# EAGLE library part 050-9X2 (library zz-upenn 2)
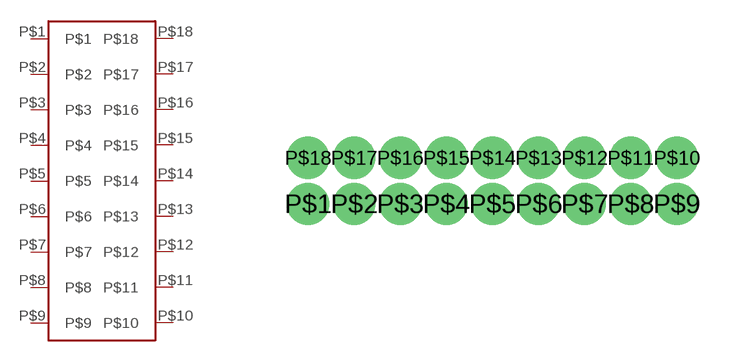
[diagram p15: symbol with the pads of 050-9X2; footprint 050-9X2]

Designator prefix -

## 050-9X2  [050-9X2]
P$1  P$1
P$2  P$2
P$3  P$3
P$4  P$4
P$5  P$5
P$6  P$6
P$7  P$7
P$8  P$8
P$9  P$9
P$10  P$10
P$11  P$11
P$12  P$12
P$13  P$13
P$14  P$14
P$15  P$15
P$16  P$16
P$17  P$17
P$18  P$18

## Footprint 050-9X2 (pad centres in mm)
drill 0.66 pad 0.889: P$1 -5.08,0; P$2 -3.81,0; P$3 -2.54,0; P$4 -1.27,0; P$5 0,0; P$6 1.27,0; P$7 2.54,0; P$8 3.81,0; P$9 5.08,0; P$10 5.08,1.27; P$11 3.81,1.27; P$12 2.54,1.27; P$13 1.27,1.27; P$14 0,1.27; P$15 -1.27,1.27; P$16 -2.54,1.27; P$17 -3.81,1.27; P$18 -5.08,1.27